# Altium footprint library Misc.PcbLib: 27 footprints (part 2 of 2)
Each footprint in its own frame and in the unit in brackets; x right, y up, seen from the top. Pads: shape width x height; smd on the part's side, far side on the other; paste and mask are expansions set on the pad; w line width, h text height; cw(c..) or ccw(c..) is an arc to the next point about the centre after c.
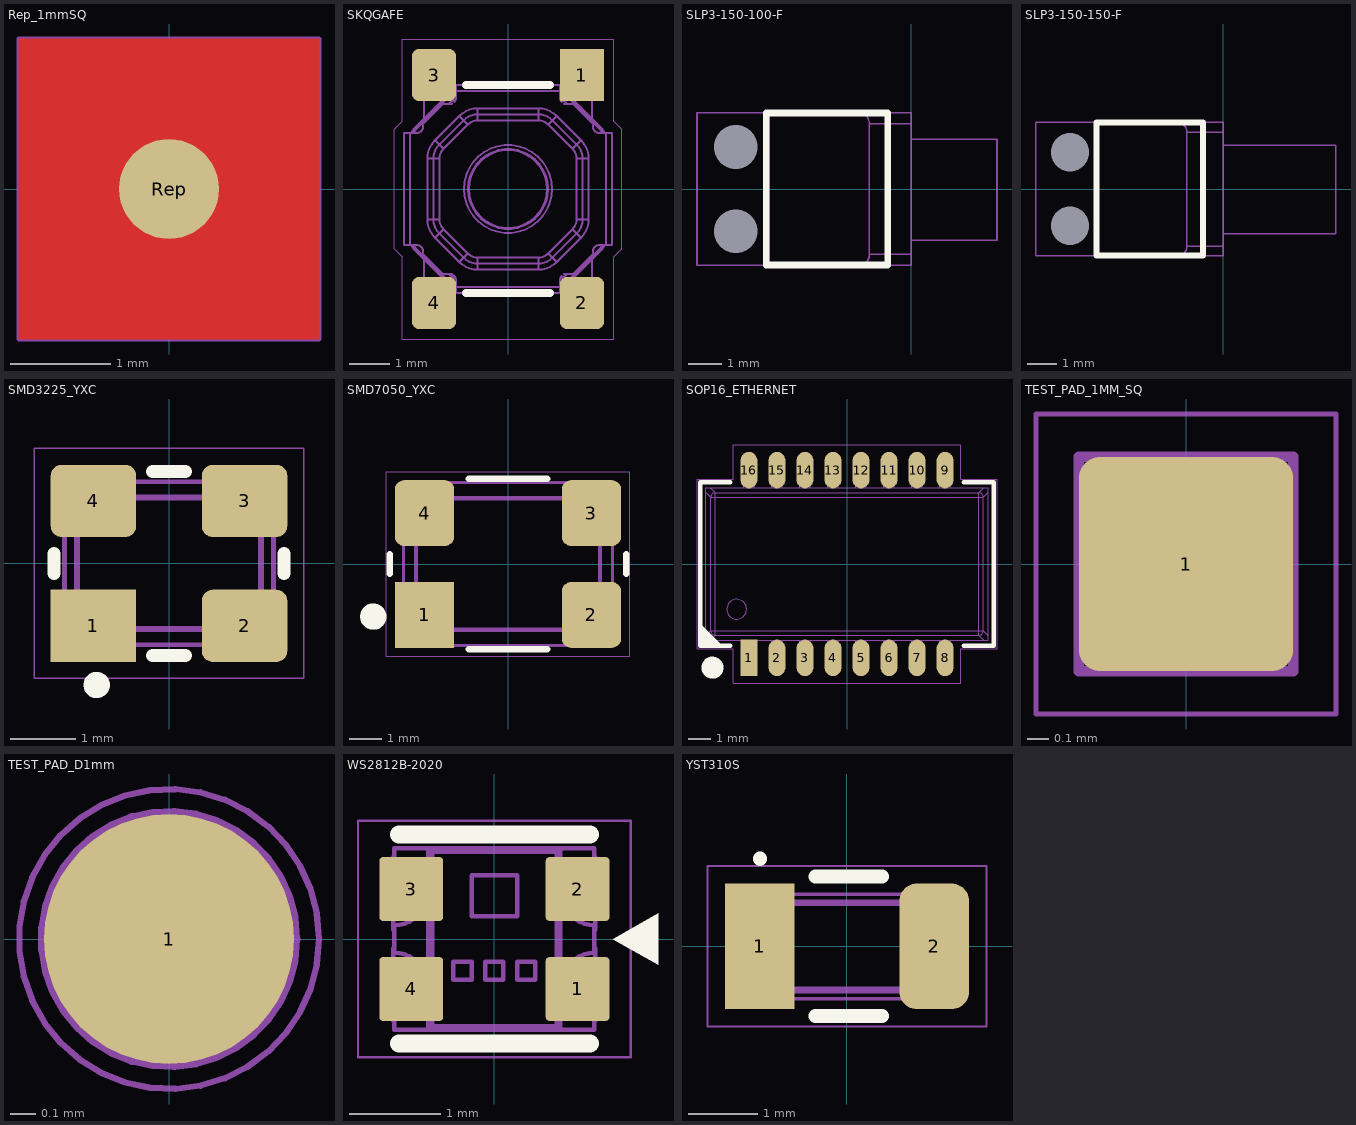
[diagram p1: the footprints below, top view; thin cyan lines are the x and y axes]

## Rep_1mmSQ [mm] "Rep. Point 1mm"
pads (1):
  round 1 smd paste-3 mask+0.05: Rep(0,0)
Top Layer:
  pour cut-out: -1.5,1.5 -1.5,-1.5 1.5,-1.5 1.5,1.5
Top Solder:
  rectangle: -1.5,-1.5 1.5,1.5
Top Courtyard:
  lines w0.025: -1.5,-1.5 -1.5,1.5 1.5,1.5 1.5,-1.5 -1.5,-1.5
Top Assembly:
  circle w0.05: c0,0 r0.5
  lines w0.05: -1.5,-1.5 -1.5,1.5 1.5,1.5 1.5,-1.5 -1.5,-1.5
  text ".Designator" at -2.252,1.774 h1

## SKQGAFE [mm] "5.2mm Square Low-profile TACT Switch"
height 1.5
pads (4):
  rect 1.1x1.3 smd mask+0.05: 1(1.85,2.85)
  rrect30% 1.1x1.3 smd mask+0.05: 2(1.85,-2.85) 3(-1.85,2.85) 4(-1.85,-2.85)
Top Overlay:
  lines w0.2: -1.05,-2.6 1.05,-2.6 ; -1.05,2.6 1.05,2.6
Top Courtyard:
  lines w0.025: -2.85,-1.5 -2.85,1.5 -2.65,1.7 -2.65,3.75 2.65,3.75 2.65,1.7 2.85,1.5 2.85,-1.5 2.65,-1.7 2.65,-3.75 -2.65,-3.75 -2.65,-1.7 -2.85,-1.5
Top Assembly:
  drawing of 367 lines, arcs and shapes, not listed
  text ".Designator" at -4.511,3.797 h2
3D body "SKQGAF.x_t": height 1.5, standoff 0, extent -2.6,-3.2 2.6,3.2

## SLP3-150-100-F [mm] "LED Indication, Rigid Light Pipes"
pads (2):
  round 0 hole 1.3 unplated: KEY(-5.2,-1.25) KEY(-5.2,1.25)
Top Overlay:
  lines w0.2: -4.3,-2.25 -4.3,2.25 -0.7,2.25 -0.7,-2.25 -4.3,-2.25
Top Assembly:
  lines w0.05: -4.233,-2.261 -4.233,2.261 ; -1.532,-2.261 ccw(c-1.553,-1.952) -1.245,-1.93 ; -1.532,2.261 cw(c-1.557,1.948) -1.245,1.93 ; 0,-1.93 -1.245,-1.93 ; 0,-1.522 2.54,-1.522 2.54,1.475 0,1.475 ; 0,1.93 -1.245,1.93 ; -1.245,-1.93 -1.245,1.93 ; -6.35,-2.261 0,-2.261 0,2.261 -6.35,2.261 -6.35,-2.261
  text ".Designator" at 1.539,-3.378 h1.5
3D body "SLP3-150-100-F.x_t": height 5.31, standoff -1.6, extent -6.35,-2.261 2.54,2.261

## SLP3-150-150-F [mm] "LED Indication, Rigid Light Pipes"
pads (2):
  round 0 hole 1.3 unplated: KEY(-5.2,-1.25) KEY(-5.2,1.25)
Top Overlay:
  lines w0.2: -4.3,-2.25 -0.7,-2.25 -0.7,2.25 -4.3,2.25 -4.3,-2.25
Top Assembly:
  lines w0.05: -4.233,-2.261 -4.233,2.261 ; -1.532,-2.261 ccw(c-1.553,-1.952) -1.245,-1.93 ; -1.532,2.261 cw(c-1.557,1.948) -1.245,1.93 ; 0,-1.93 -1.245,-1.93 ; 0,-1.522 3.81,-1.522 3.81,1.475 0,1.475 ; 0,1.93 -1.245,1.93 ; -1.245,-1.93 -1.245,1.93 ; -6.35,-2.261 -6.35,2.261 0,2.261 0,-2.261 -6.35,-2.261
  text ".Designator" at 2.339,-3.378 h1.5
3D body "SLP3-150-150-F.x_t": height 5.31, standoff -1.6, extent -6.35,-2.261 3.81,2.261

## SMD3225_YXC [mm] "Crystall/Clock Oscillator 3.2mm x 2.5mm"
height 0.9
pads (4):
  rect 1.3x1.1 smd mask+0.05: 1(-1.15,-0.95)
  rrect30% 1.3x1.1 smd mask+0.05: 2(1.15,-0.95) 3(1.15,0.95) 4(-1.15,0.95)
Top Overlay:
  circle w0.2: c-1.1,-1.85 r0.1
  lines w0.2: -1.75,-0.15 -1.75,0.15 ; -0.25,-1.4 0.25,-1.4 ; -0.25,1.4 0.25,1.4 ; 1.75,-0.15 1.75,0.15
Top Courtyard:
  lines w0.025: -2.05,-1.75 -2.05,1.75 2.05,1.75 2.05,-1.75 -2.05,-1.75
Top Assembly:
  circle w0.05: c-1.125,-0.696 r0.1
  lines w0.05: -1.55,-1.098 -1.55,-1.109 cw(c-1.638,-1.288) -1.459,-1.2 -1.448,-1.2 ; -1.55,1.098 -1.55,1.108 ccw(c-1.638,1.288) -1.459,1.2 -1.448,1.2 ; 1.448,-1.2 1.458,-1.2 cw(c1.638,-1.288) 1.55,-1.109 1.55,-1.098 ; 1.448,1.2 1.458,1.2 ccw(c1.638,1.288) 1.55,1.108 1.55,1.098 ; -1.6,-1.09 cw(c-1.6,-1.25) -1.44,-1.25 ; -1.6,-1.09 cw(c-1.252,-1.439) -1.58,-1.071 ; -1.6,-1.09 -1.6,1.09 ; -1.6,1.09 ccw(c-1.6,1.25) -1.44,1.25 ; -1.6,1.09 ccw(c-1.252,1.439) -1.58,1.071 ; -1.58,-1.071 cw(c-1.6,-1.25) -1.421,-1.23 ; -1.58,-1.071 -1.58,1.071 ; -1.58,1.071 ccw(c-1.6,1.25) -1.421,1.23 ; -1.44,-1.25 ccw(c-1.789,-0.902) -1.421,-1.23 ; -1.44,-1.25 1.44,-1.25 ; -1.44,1.25 cw(c-1.789,0.901) -1.421,1.23 ; -1.44,1.25 1.44,1.25 ; -1.421,-1.23 1.421,-1.23 ; -1.421,1.23 1.421,1.23 ; -1.418,-0.8 ccw(c-1.198,-0.8) -1.198,-1.02 ; -1.418,-0.8 -1.418,0.8 ; -1.418,-0.8 -1.398,-0.8 ; -1.418,0.8 cw(c-1.198,0.8) -1.198,1.02 ; -1.418,0.8 -1.398,0.8 ; -1.398,-0.8 ccw(c-1.198,-0.8) -1.198,-1 ; -1.398,-0.8 -1.378,-0.8 ; -1.398,-0.8 -1.398,0.8 ; -1.398,0.8 cw(c-1.198,0.8) -1.198,1 ; -1.398,0.8 -1.378,0.8 ; -1.378,-0.8 ccw(c-1.198,-0.8) -1.198,-0.98 ; -1.378,-0.8 -1.378,0.8 ; -1.378,0.8 cw(c-1.198,0.8) -1.198,0.98 ; -1.198,-1.02 1.198,-1.02 ; -1.198,-1.02 -1.198,-1 ; -1.198,-1 -1.198,-0.98 ; -1.198,-1 1.198,-1 ; -1.198,-0.98 1.198,-0.98 ; -1.198,0.98 -1.198,1 ; -1.198,0.98 1.198,0.98 ; -1.198,1 -1.198,1.02 ; -1.198,1 1.198,1 ; -1.198,1.02 1.198,1.02 ; 1.198,-1.02 ccw(c1.198,-0.8) 1.418,-0.8 ; 1.198,-1.02 1.198,-1 ; 1.198,-1 ccw(c1.198,-0.8) 1.398,-0.8 ; 1.198,-1 1.198,-0.98 ; 1.198,-0.98 ccw(c1.198,-0.8) 1.378,-0.8 ; 1.198,0.98 cw(c1.198,0.8) 1.378,0.8 ; 1.198,0.98 1.198,1 ; 1.198,1 cw(c1.198,0.8) 1.398,0.8 ; 1.198,1 1.198,1.02 ; 1.198,1.02 cw(c1.198,0.8) 1.418,0.8 ; 1.378,-0.8 1.398,-0.8 ; 1.378,-0.8 1.378,0.8 ; 1.378,0.8 1.398,0.8 ; 1.398,-0.8 1.418,-0.8 ; 1.398,-0.8 1.398,0.8 ; 1.398,0.8 1.418,0.8 ; 1.418,-0.8 1.418,0.8 ; 1.421,-1.23 cw(c1.6,-1.25) 1.58,-1.071 ; 1.421,-1.23 ccw(c1.789,-0.902) 1.44,-1.25 ; 1.421,1.23 ccw(c1.6,1.25) 1.58,1.071 ; 1.421,1.23 cw(c1.789,0.901) 1.44,1.25 ; 1.44,-1.25 cw(c1.6,-1.25) 1.6,-1.09 ; 1.44,1.25 ccw(c1.6,1.25) 1.6,1.09 ; 1.58,-1.071 cw(c1.251,-1.439) 1.6,-1.09 ; 1.58,-1.071 1.58,1.071 ; 1.58,1.071 ccw(c1.251,1.439) 1.6,1.09 ; 1.6,-1.09 1.6,1.09
  text ".Designator" at -3.378,-0.339 h1.5
3D body "YXC_SMD3225.x_t": height 0.9, standoff 0, extent -1.6,-1.25 1.6,1.25

## SMD7050_YXC [mm] "Crystall/Clock Oscillator 7.0mm x 5.0mm"
height 1.4
pads (4):
  rect 1.8x2 smd mask+0.05: 1(-2.54,-1.55)
  rrect30% 1.8x2 smd mask+0.05: 2(2.54,-1.55) 3(2.54,1.55) 4(-2.54,1.55)
Top Overlay:
  circle w0.4: c-4.1,-1.6 r0.2
  lines w0.2: -3.6,-0.3 -3.6,0.3 ; -1.2,-2.6 1.2,-2.6 ; -1.2,2.6 1.2,2.6 ; 3.6,-0.3 3.6,0.3
Top Courtyard:
  lines w0.025: -3.7,-2.8 -3.7,2.8 3.7,2.8 3.7,-2.8 -3.7,-2.8
Top Assembly:
  circle w0.05: c-2.2,-1.4 r0.3
  lines w0.05: -3.1,-2.196 -3.1,-2.217 cw(c-3.276,-2.576) -2.917,-2.4 -2.896,-2.4 ; -3.1,2.196 -3.1,2.217 ccw(c-3.276,2.576) -2.917,2.4 -2.896,2.4 ; 2.896,-2.4 2.917,-2.4 cw(c3.276,-2.576) 3.1,-2.217 3.1,-2.196 ; 2.896,2.4 2.917,2.4 ccw(c3.276,2.576) 3.1,2.217 3.1,2.196 ; -3.2,-2.18 cw(c-2.503,-2.878) -3.16,-2.142 ; -3.2,-2.18 cw(c-3.2,-2.5) -2.88,-2.5 ; -3.2,-2.18 -3.2,2.18 ; -3.2,2.18 ccw(c-2.503,2.878) -3.16,2.142 ; -3.2,2.18 ccw(c-3.2,2.5) -2.88,2.5 ; -3.16,-2.142 cw(c-3.2,-2.5) -2.842,-2.46 ; -3.16,-2.142 -3.16,2.142 ; -3.16,2.142 ccw(c-3.2,2.5) -2.842,2.46 ; -2.88,-2.5 ccw(c-3.578,-1.803) -2.842,-2.46 ; -2.88,-2.5 2.88,-2.5 ; -2.88,2.5 cw(c-3.578,1.803) -2.842,2.46 ; -2.88,2.5 2.88,2.5 ; -2.842,-2.46 2.842,-2.46 ; -2.842,2.46 2.842,2.46 ; -2.836,-1.6 ccw(c-2.396,-1.6) -2.396,-2.04 ; -2.836,-1.6 -2.796,-1.6 ; -2.836,-1.6 -2.836,1.6 ; -2.836,1.6 cw(c-2.396,1.6) -2.396,2.04 ; -2.836,1.6 -2.796,1.6 ; -2.796,-1.6 ccw(c-2.396,-1.6) -2.396,-2 ; -2.796,-1.6 -2.796,1.6 ; -2.796,-1.6 -2.756,-1.6 ; -2.796,1.6 cw(c-2.396,1.6) -2.396,2 ; -2.796,1.6 -2.756,1.6 ; -2.756,-1.6 ccw(c-2.396,-1.6) -2.396,-1.96 ; -2.756,-1.6 -2.756,1.6 ; -2.756,1.6 cw(c-2.396,1.6) -2.396,1.96 ; -2.396,-2.04 -2.396,-2 ; -2.396,-2.04 2.396,-2.04 ; -2.396,-2 2.396,-2 ; -2.396,-2 -2.396,-1.96 ; -2.396,-1.96 2.396,-1.96 ; -2.396,1.96 2.396,1.96 ; -2.396,1.96 -2.396,2 ; -2.396,2 2.396,2 ; -2.396,2 -2.396,2.04 ; -2.396,2.04 2.396,2.04 ; 2.396,-2.04 ccw(c2.396,-1.6) 2.836,-1.6 ; 2.396,-2.04 2.396,-2 ; 2.396,-2 ccw(c2.396,-1.6) 2.796,-1.6 ; 2.396,-2 2.396,-1.96 ; 2.396,-1.96 ccw(c2.396,-1.6) 2.756,-1.6 ; 2.396,1.96 cw(c2.396,1.6) 2.756,1.6 ; 2.396,1.96 2.396,2 ; 2.396,2 cw(c2.396,1.6) 2.796,1.6 ; 2.396,2 2.396,2.04 ; 2.396,2.04 cw(c2.396,1.6) 2.836,1.6 ; 2.756,-1.6 2.756,1.6 ; 2.756,-1.6 2.796,-1.6 ; 2.756,1.6 2.796,1.6 ; 2.796,-1.6 2.796,1.6 ; 2.796,-1.6 2.836,-1.6 ; 2.796,1.6 2.836,1.6 ; 2.836,-1.6 2.836,1.6 ; 2.842,-2.46 ccw(c3.578,-1.803) 2.88,-2.5 ; 2.842,-2.46 cw(c3.2,-2.5) 3.16,-2.142 ; 2.842,2.46 cw(c3.578,1.803) 2.88,2.5 ; 2.842,2.46 ccw(c3.2,2.5) 3.16,2.142 ; 2.88,-2.5 cw(c3.2,-2.5) 3.2,-2.18 ; 2.88,2.5 ccw(c3.2,2.5) 3.2,2.18 ; 3.16,-2.142 cw(c2.503,-2.878) 3.2,-2.18 ; 3.16,-2.142 3.16,2.142 ; 3.16,2.142 ccw(c2.503,2.878) 3.2,2.18 ; 3.2,-2.18 3.2,2.18
  text ".Designator" at -4.511,-0.453 h2
3D body "YXC_SMD7050.x_t": height 1.4, standoff 0, extent -3.5,-2.5 3.5,2.5

## SOP16_ETHERNET [mm] "100 MBis/s Ethernet Transformer"
height 5.65
pads (16):
  rect 0.76x1.65 smd: 1(-4.445,-4.255)
  oval 0.76x1.65 smd: 2(-3.175,-4.255) 3(-1.905,-4.255) 4(-0.635,-4.255) 5(0.635,-4.255) 6(1.905,-4.255) 7(3.175,-4.255) 8(4.445,-4.255) 9(4.445,4.255) 10(3.175,4.255) 11(1.905,4.255) 12(0.635,4.255) 13(-0.635,4.255) 14(-1.905,4.255) 15(-3.175,4.255) 16(-4.445,4.255)
Top Overlay:
  circle w0.5: c-6.1,-4.7 r0.25
  region: -6.65,-2.7 -6.65,-3.7 -5.65,-3.7
  lines w0.2: -5.3,-3.7 -6.65,-3.7 -6.65,3.7 -5.3,3.7 ; 5.3,-3.7 6.65,-3.7 6.65,3.7 5.3,3.7
Top Courtyard:
  lines w0.025: -6.8,-3.85 -6.8,3.85 -5.15,3.85 -5.15,5.4 5.15,5.4 5.15,3.85 6.8,3.85 6.8,-3.85 5.15,-3.85 5.15,-5.4 -5.15,-5.4 -5.15,-3.85 -6.8,-3.85
Top Assembly:
  circle w0.05: c-5,-2.05 r0.45
  lines w0.05: -6.4,-3.25 -6.175,-3.026 ; -6.4,3.25 -6.175,3.026 ; -6.2,-3.45 -5.976,-3.225 ; -6.2,3.45 -5.976,3.225 ; -4.675,-4.292 -4.215,-4.292 ; -4.675,-4.204 -4.215,-4.204 ; -4.675,-3.983 -4.215,-3.983 ; -4.675,-3.686 -4.215,-3.686 ; -4.675,-3.45 -4.675,-4.65 -4.215,-4.65 -4.215,-3.45 ; -4.675,3.45 -4.675,4.65 -4.215,4.65 -4.215,3.45 ; -4.675,3.686 -4.215,3.686 ; -4.675,3.983 -4.215,3.983 ; -4.675,4.204 -4.215,4.204 ; -4.675,4.292 -4.215,4.292 ; -3.405,-4.292 -2.945,-4.292 ; -3.405,-4.204 -2.945,-4.204 ; -3.405,-3.983 -2.945,-3.983 ; -3.405,-3.686 -2.945,-3.686 ; -3.405,-3.45 -3.405,-4.65 -2.945,-4.65 -2.945,-3.45 ; -3.405,3.45 -3.405,4.65 -2.945,4.65 -2.945,3.45 ; -3.405,3.686 -2.945,3.686 ; -3.405,3.983 -2.945,3.983 ; -3.405,4.204 -2.945,4.204 ; -3.405,4.292 -2.945,4.292 ; -2.135,-4.292 -1.675,-4.292 ; -2.135,-4.204 -1.675,-4.204 ; -2.135,-3.983 -1.675,-3.983 ; -2.135,-3.686 -1.675,-3.686 ; -2.135,-3.45 -2.135,-4.65 -1.675,-4.65 -1.675,-3.45 ; -2.135,3.45 -2.135,4.65 -1.675,4.65 -1.675,3.45 ; -2.135,3.686 -1.675,3.686 ; -2.135,3.983 -1.675,3.983 ; -2.135,4.204 -1.675,4.204 ; -2.135,4.292 -1.675,4.292 ; -0.865,-4.292 -0.405,-4.292 ; -0.865,-4.204 -0.405,-4.204 ; -0.865,-3.983 -0.405,-3.983 ; -0.865,-3.686 -0.405,-3.686 ; -0.865,-3.45 -0.865,-4.65 -0.405,-4.65 -0.405,-3.45 ; -0.865,3.45 -0.865,4.65 -0.405,4.65 -0.405,3.45 ; -0.865,3.686 -0.405,3.686 ; -0.865,3.983 -0.405,3.983 ; -0.865,4.204 -0.405,4.204 ; -0.865,4.292 -0.405,4.292 ; 0.405,-4.292 0.865,-4.292 ; 0.405,-4.204 0.865,-4.204 ; 0.405,-3.983 0.865,-3.983 ; 0.405,-3.686 0.865,-3.686 ; 0.405,-3.45 0.405,-4.65 0.865,-4.65 0.865,-3.45 ; 0.405,3.45 0.405,4.65 0.865,4.65 0.865,3.45 ; 0.405,3.686 0.865,3.686 ; 0.405,3.983 0.865,3.983 ; 0.405,4.204 0.865,4.204 ; 0.405,4.292 0.865,4.292 ; 1.675,-4.292 2.135,-4.292 ; 1.675,-4.204 2.135,-4.204 ; 1.675,-3.983 2.135,-3.983 ; 1.675,-3.686 2.135,-3.686 ; 1.675,-3.45 1.675,-4.65 2.135,-4.65 2.135,-3.45 ; 1.675,3.45 1.675,4.65 2.135,4.65 2.135,3.45 ; 1.675,3.686 2.135,3.686 ; 1.675,3.983 2.135,3.983 ; 1.675,4.204 2.135,4.204 ; 1.675,4.292 2.135,4.292 ; 2.945,-4.292 3.405,-4.292 ; 2.945,-4.204 3.405,-4.204 ; 2.945,-3.983 3.405,-3.983 ; 2.945,-3.686 3.405,-3.686 ; 2.945,-3.45 2.945,-4.65 3.405,-4.65 3.405,-3.45 ; 2.945,3.45 2.945,4.65 3.405,4.65 3.405,3.45 ; 2.945,3.686 3.405,3.686 ; 2.945,3.983 3.405,3.983 ; 2.945,4.204 3.405,4.204 ; 2.945,4.292 3.405,4.292 ; 4.215,-4.292 4.675,-4.292 ; 4.215,-4.204 4.675,-4.204 ; 4.215,-3.983 4.675,-3.983 ; 4.215,-3.686 4.675,-3.686 ; 4.215,-3.45 4.215,-4.65 4.675,-4.65 4.675,-3.45 ; 4.215,3.45 4.215,4.65 4.675,4.65 4.675,3.45 ; 4.215,3.686 4.675,3.686 ; 4.215,3.983 4.675,3.983 ; 4.215,4.204 4.675,4.204 ; 4.215,4.292 4.675,4.292 ; 6.2,-3.45 5.976,-3.225 ; 6.2,3.45 5.976,3.225 ; 6.4,-3.25 6.175,-3.026 ; 6.4,3.25 6.175,3.026 ; -6.175,-3.026 ccw(c-5.975,-3.025) -5.976,-3.225 ; -6.175,-3.026 6.175,-3.026 ; -6.175,-3.026 -6.175,3.026 ; -6.175,3.026 cw(c-5.975,3.025) -5.976,3.225 ; -6.175,3.026 6.175,3.026 ; -5.976,-3.225 -5.976,3.225 ; -5.976,-3.225 5.976,-3.225 ; -5.976,3.225 5.976,3.225 ; 5.976,-3.225 ccw(c5.975,-3.025) 6.175,-3.026 ; 5.976,-3.225 5.976,3.225 ; 5.976,3.225 cw(c5.975,3.025) 6.175,3.026 ; 6.175,-3.026 6.175,3.026 ; -6.4,-3.45 -6.4,3.45 6.4,3.45 6.4,-3.45 -6.4,-3.45
  text ".Designator" at -5.637,-0.566 h2.5
3D body "SOP-16_Transformer.x_t": height 5.65, standoff 0, extent -6.4,-4.65 6.4,4.65

## TEST_PAD_1MM_SQ [mm] "Test Point, SQ"
pads (1):
  rrect20% 1x1 smd paste-3 mask+0.05: 1(0,0)
Top Courtyard:
  lines w0.025: -0.7,-0.7 0.7,-0.7 0.7,0.7 -0.7,0.7 -0.7,-0.7
Top Assembly:
  lines w0.05: -0.5,-0.5 -0.5,0.5 0.5,0.5 0.5,-0.5 -0.5,-0.5

## TEST_PAD_D1mm [mm] "Test Point, R = 0.5mm"
pads (1):
  round 1 smd paste-3 mask+0.05: 1(0,0)
Top Courtyard:
  circle w0.025: c0,0 r0.6
Top Assembly:
  circle w0.05: c0,0 r0.5

## WS2812B-2020 [mm]
height 0.84
pads (4):
  rrect10% 0.7x0.7 smd mask+0.05: 1(0.915,-0.55) 2(0.915,0.55) 3(-0.915,0.55) 4(-0.915,-0.55)
Top Overlay:
  region: 1.3,0 1.8,0.286 1.8,-0.286
  lines w0.2: -1.05,-1.15 1.05,-1.15 ; -1.05,1.15 1.05,1.15
Top Courtyard:
  lines w0.025: -1.5,-1.3 -1.5,1.3 1.5,1.3 1.5,-1.3 -1.5,-1.3
Top Assembly:
  lines w0.05: -1.11,-0.85 -1.1,-0.85 ; -1.11,-0.15 -1.1,-0.15 ; -1.11,0.15 -1.1,0.15 ; -1.11,0.85 -1.1,0.85 ; -1.1,-0.9 -1.11,-0.9 -1.11,-0.75 -1.1,-0.75 ccw(c-1.1,-0.5) -1.1,-0.25 -1.11,-0.25 -1.11,-0.1 -1.1,-0.1 ; -1.1,0.1 -1.11,0.1 -1.11,0.25 -1.1,0.25 ccw(c-1.1,0.5) -1.1,0.75 -1.11,0.75 -1.11,0.9 -1.1,0.9 ; 1.1,-0.9 1.11,-0.9 1.11,-0.75 1.1,-0.75 cw(c1.1,-0.5) 1.1,-0.25 1.11,-0.25 1.11,-0.1 1.1,-0.1 ; 1.1,0.1 1.11,0.1 1.11,0.25 1.1,0.25 cw(c1.1,0.5) 1.1,0.75 1.11,0.75 1.11,0.9 1.1,0.9 ; 1.11,-0.85 1.1,-0.85 ; 1.11,-0.15 1.1,-0.15 ; 1.11,0.15 1.1,0.15 ; 1.11,0.85 1.1,0.85 ; -1.1,-0.85 ccw(c-1.1,-0.5) -1.1,-0.15 ; -1.1,-0.85 -1.1,-1 1.1,-1 1.1,-0.85 ; -1.1,-0.15 -1.1,0.15 ; -1.1,0.15 ccw(c-1.1,0.5) -1.1,0.85 ; -1.1,0.85 -1.1,1 1.1,1 1.1,0.85 ; -0.686,-0.961 -0.686,0.961 ; -0.686,-0.961 -0.725,-1 -0.725,1 -0.686,0.961 ; -0.686,-0.961 0.686,-0.961 ; -0.686,0.961 0.686,0.961 ; 0.686,-0.961 0.686,0.961 ; 0.686,-0.961 0.725,-1 0.725,1 0.686,0.961 ; 1.1,-0.85 cw(c1.1,-0.5) 1.1,-0.15 ; 1.1,-0.15 1.1,0.15 ; 1.1,0.15 cw(c1.1,0.5) 1.1,0.85 ; -0.45,-0.45 -0.25,-0.45 -0.25,-0.25 -0.45,-0.25 -0.45,-0.45 ; -0.25,0.25 0.25,0.25 0.25,0.7 -0.25,0.7 -0.25,0.25 ; -0.1,-0.45 0.1,-0.45 0.1,-0.25 -0.1,-0.25 -0.1,-0.45 ; 0.25,-0.45 0.45,-0.45 0.45,-0.25 0.25,-0.25 0.25,-0.45
  text ".Designator" at -2.252,1.274 h1
3D body "WS2812B-2020.x_t": height 0.84, standoff -0.01, extent -1.11,-1 1.11,1

## YST310S [mm]
pads (2):
  rect 1x1.8 smd: 1(-1.25,0)
  rrect50% 1x1.8 smd: 2(1.25,0)
Top Overlay:
  lines w0.2: -1.25,1.25 ccw(c-1.349,1.261) -1.249,1.261 ; -0.45,-1 0.5,-1 ; -0.45,1 0.5,1
Top Courtyard:
  lines w0.025: -2,-1.15 2,-1.15 2,1.15 -2,1.15 -2,-1.15
Top Assembly:
  lines w0.05: -1.5,-0.5 ccw(c-1.35,-0.5) -1.35,-0.65 ; -1.5,-0.5 -1.5,0.5 ; -1.5,-0.5 -1.45,-0.5 ; -1.5,0.5 cw(c-1.35,0.5) -1.35,0.65 ; -1.5,0.5 -1.45,0.5 ; -1.45,-0.5 ccw(c-1.35,-0.5) -1.35,-0.6 ; -1.45,-0.5 -1.45,0.5 ; -1.45,0.5 cw(c-1.35,0.5) -1.35,0.6 ; -1.35,-0.65 -1.35,-0.6 ; -1.35,-0.65 1.35,-0.65 ; -1.35,-0.6 1.35,-0.6 ; -1.35,0.6 1.35,0.6 ; -1.35,0.6 -1.35,0.65 ; -1.35,0.65 1.35,0.65 ; 1.35,-0.65 ccw(c1.35,-0.5) 1.5,-0.5 ; 1.35,-0.65 1.35,-0.6 ; 1.35,-0.6 ccw(c1.35,-0.5) 1.45,-0.5 ; 1.35,0.6 cw(c1.35,0.5) 1.45,0.5 ; 1.35,0.6 1.35,0.65 ; 1.35,0.65 cw(c1.35,0.5) 1.5,0.5 ; 1.45,-0.5 1.5,-0.5 ; 1.45,-0.5 1.45,0.5 ; 1.45,0.5 1.5,0.5 ; 1.5,-0.5 1.5,0.5 ; -1.6,-0.645 cw(c-1.6,-0.75) -1.495,-0.75 1.495,-0.75 cw(c1.6,-0.75) 1.6,-0.645 1.6,0.645 cw(c1.6,0.75) 1.495,0.75 -1.495,0.75 cw(c-1.6,0.75) -1.6,0.645 -1.6,-0.645
  text ".Designator" at -2.252,-0.226 h1
3D body "YST310S.STEP": height 0.75, standoff -0.01, extent -1.6,-0.75 1.6,0.75